# Altium footprint library keystone 3550-2.PcbLib: 1 footprints
Each footprint in its own frame and in the unit in brackets; x right, y up, seen from the top. Pads: shape width x height; smd on the part's side, far side on the other; paste and mask are expansions set on the pad; w line width, h text height; cw(c..) or ccw(c..) is an arc to the next point about the centre after c.
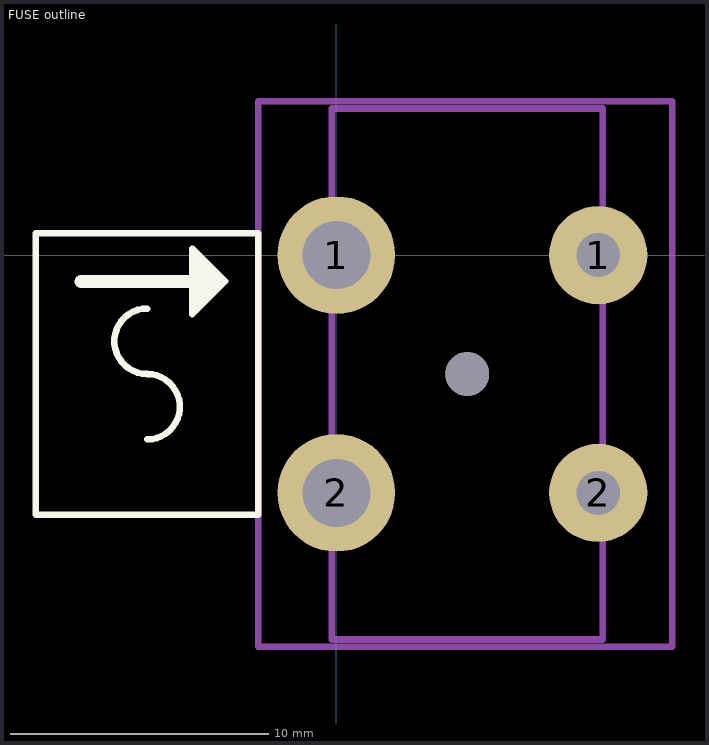
[diagram p0: the footprint, top view; thin cyan lines are the x and y axes]

## FUSE outline [mil]
pads (5):
  round 180 hole 104: 1(0,0) 2(0,-363)
  round 150 hole 67: 1(400,0) 2(400,-363)
  round 67 hole 67 unplated mask+0: ""(200,-181.5)
Top Overlay:
  region: -220,10 -170,-40 -220,-90
  lines w3.94: -456,33 -453,33
  lines w10: -289,-281.5 ccw(c-289,-231.5) -289,-181.5 cw(c-289,-131.5) -289,-81.5 ; -459,-396.5 -119,-396.5 -119,33.5 -459,33.5 -459,-396.5 ; -220,-90 -170,-40 -220,10 -220,-90
  lines w20: -390,-40 -205,-40
Mechanical 13:
  lines w10: -7,-587 407,-587 407,224 -7,224 -7,-587
Mechanical 15:
  lines w10: -119,-598 513,-598 513,235 -119,235 -119,-598
3D body: height 245, standoff 1, extent -7,-587 407,224
3D body: height 236.22, standoff -98.43, extent -475.83,-589.45 410,229.45